# EAGLE library part LP0701LG (library transistor-fet)
FET
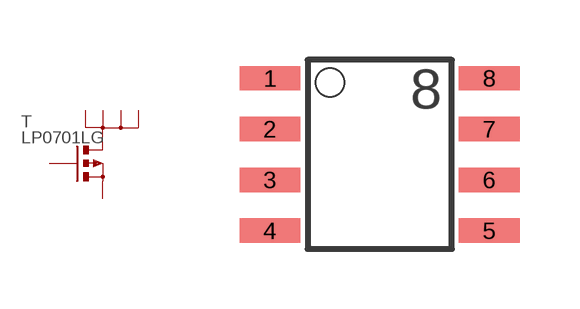
[diagram p0: symbol with the pads of SO-8; footprint SO-8]

Designator prefix T

## LP0701LG  [SO-8]
3  S  pas
4  G  pas
5  D1  pas
6  D2  pas
7  D3  pas
8  D4  pas

## Footprint SO-8 (pad centres in mm)
smd 1.524 x 0.61: 1 -2.743,1.27; 2 -2.743,0; 3 -2.743,-1.27; 4 -2.743,-2.54; 5 2.743,-2.54; 6 2.743,-1.27; 7 2.743,0; 8 2.743,1.27